# EAGLE library part MCT623SD (library SamacSys_Parts)
Transistor Output Optocouplers 8PB 2-CH TR T&R Source: Datasheet
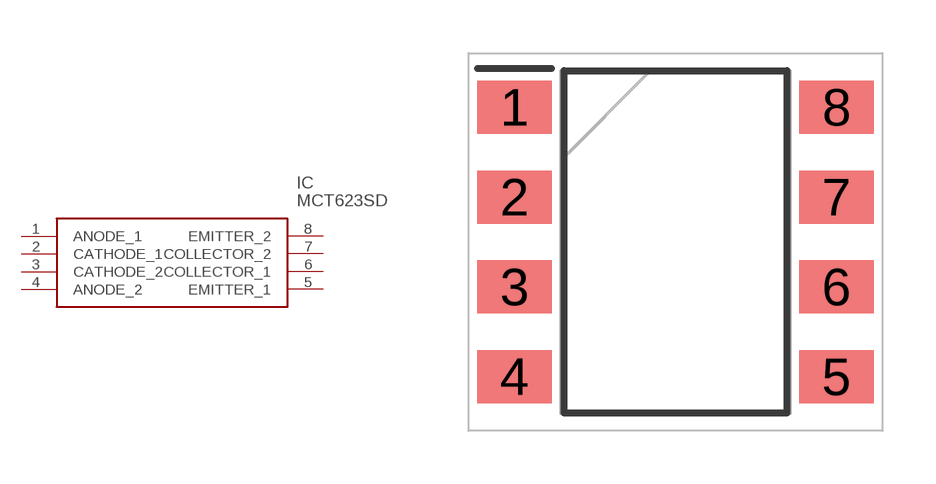
[diagram p187: symbol with the pads of SOP254P1016X435-8N; footprint SOP254P1016X435-8N]

Designator prefix IC

## MCT623SD (DESCRIPTION: Transistor Output Optocouplers 8PB 2-CH TR T&R; HEIGHT: 4.35mm; MANUFACTURER_NAME: ON Semiconductor; MANUFACTURER_PART_NUMBER: MCT623SD; MOUSER_PART_NUMBER: 512-MCT623SD; MOUSER_PRICE-STOCK: https://www.mouser.co.uk/ProductDetail/ON-Semiconductor-Fairchild/MCT623SD?qs=wZAq7HxA4kzz7fru3wImOQ%3D%3D)  [SOP254P1016X435-8N]
1  ANODE_1
2  CATHODE_1
3  CATHODE_2
4  ANODE_2
5  EMITTER_1
6  COLLECTOR_1
7  COLLECTOR_2
8  EMITTER_2

## Footprint SOP254P1016X435-8N (pad centres in mm)
SMT 8-Pin (lead Bend)_11
smd 2.1 x 1.5: 1 -4.55,3.81; 2 -4.55,1.27; 3 -4.55,-1.27; 4 -4.55,-3.81; 5 4.55,-3.81; 6 4.55,-1.27; 7 4.55,1.27; 8 4.55,3.81